# EAGLE library part ESD7016 (library ICs)
10V Clamp 1A (8/20µs) Ipp Tvs Diode Surface Mount USB 3 ESD protection
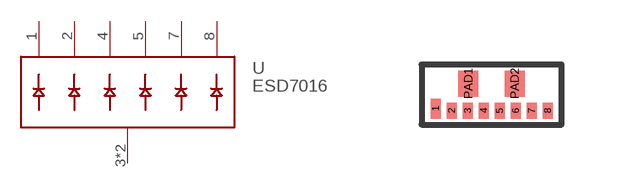
[diagram p277: symbol with the pads of ESD7016; footprint ESD7016]

Designator prefix U

## ESD7016 (DIGIKEY: ESD7016MUTAGOSCT-ND; HEIGHT: 1; PRICE_PER: 0.43; VALUE: USB ESD)  [ESD7016]
1  1
2  2
3  GND
4  4
5  5
6  GND
7  7
8  8

## Footprint ESD7016 (pad centres in mm)
smd 0.25 x 0.5: 1 -1.4,-0.35
smd 0.25 x 0.4: 2 -1,-0.4; 3 -0.6,-0.4; 4 -0.2,-0.4; 5 0.2,-0.4; 6 0.6,-0.4; 7 1,-0.4; 8 1.4,-0.4
smd 0.5 x 0.65: PAD1 -0.58,0.275; PAD2 0.58,0.275